# Altium footprint library 8051.PcbLib: 14 footprints
Each footprint in its own frame and in the unit in brackets; x right, y up, seen from the top. Pads: shape width x height; smd on the part's side, far side on the other; paste and mask are expansions set on the pad; w line width, h text height; cw(c..) or ccw(c..) is an arc to the next point about the centre after c.
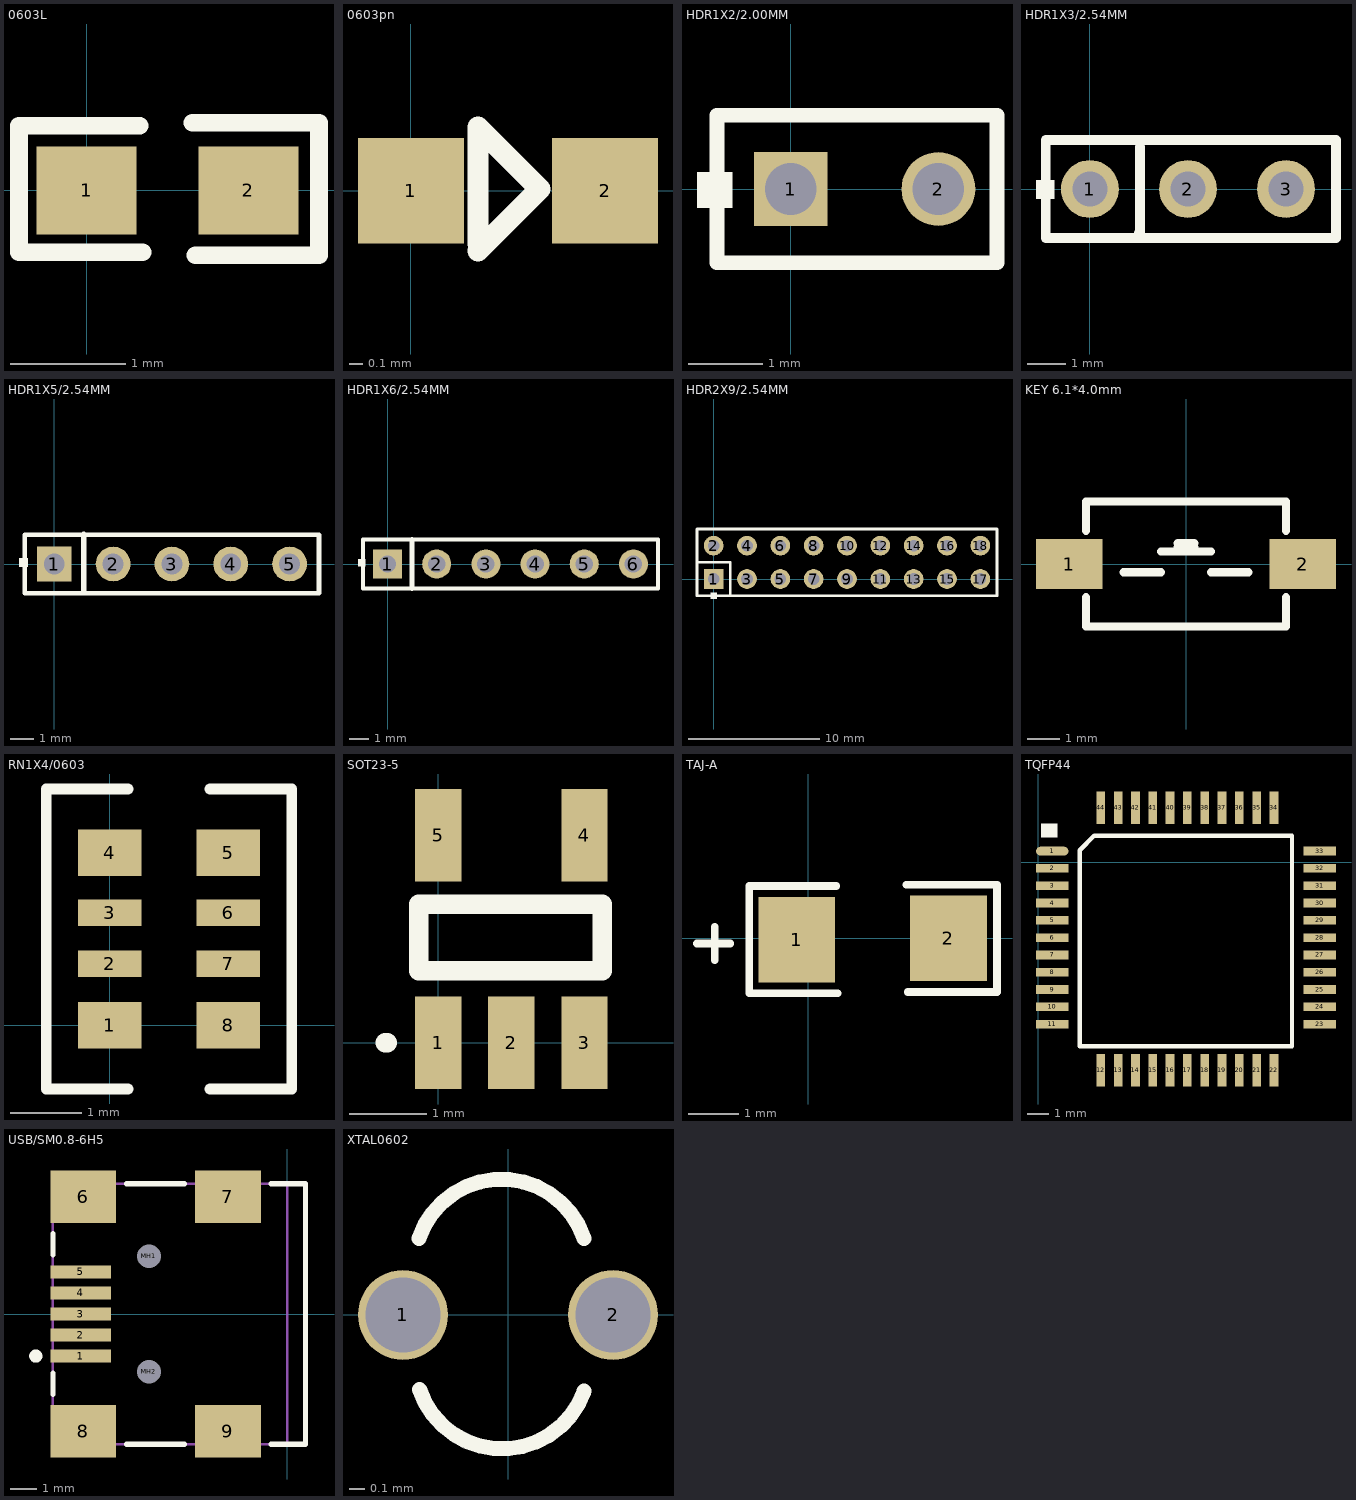
[diagram p0: the footprints below, top view; thin cyan lines are the x and y axes]

## 0603L [mil] "0603 LONG"
height 200
pads (2):
  rect 33.94x30 smd: 1(0,0) 2(55,0)
Top Overlay:
  lines w6: 18,22 -23,22 -23,-21 19,-21 ; 36,23 79,23 79,-22 37,-22

## 0603pn [mil]
height 200
pads (2):
  rect 30x30 smd: 1(0,0) 2(55,0)
Top Overlay:
  lines w6: 19,-17 36.5,0.5 19,18 19,-15 20,-16

## HDR1X2/2.00MM [mm]
pads (2):
  rect 1x1 hole 0.7: 1(0,0)
  round 1 hole 0.7: 2(2,0)
Top Overlay:
  rectangle: -1.27,-0.254 -0.787,0.229
  lines w0.2: -1,-1 2.794,-1 2.794,1 -1,1 -1,-1

## HDR1X3/2.54MM [mm]
pads (3):
  round 1.5 hole 0.9: 1(0,0) 2(2.54,0) 3(5.08,0)
Top Overlay:
  rectangle: -1.397,-0.254 -0.914,0.229
  lines w0.254: 1.27,-1.143 1.295,-1.118 1.295,1.092 ; -1.143,-1.27 6.375,-1.27 6.375,1.27 -1.143,1.27 -1.143,-1.27

## HDR1X5/2.54MM [mm] "Connector; Header; 5 Position"
pads (5):
  rect 1.5x1.5 hole 0.9: 1(0,0)
  round 1.5 hole 0.9: 2(2.54,0) 3(5.08,0) 4(7.62,0) 5(10.16,0)
Top Overlay:
  rectangle: -1.524,-0.127 -1.143,0.254
  lines w0.2: -1.27,-1.27 11.43,-1.27 11.43,1.27 -1.27,1.27 -1.27,-1.27
  lines w0.254: 1.27,-1.143 1.27,1.27

## HDR1X6/2.54MM [mm] "Connector; Header; 6 Position"
pads (6):
  rect 1.5x1.5 hole 0.9: 1(0,0)
  round 1.5 hole 0.9: 2(2.54,0) 3(5.08,0) 4(7.62,0) 5(10.16,0) 6(12.7,0)
Top Overlay:
  rectangle: -1.524,-0.127 -1.143,0.254
  lines w0.2: -1.27,-1.27 -1.27,1.27 13.97,1.27 13.97,-1.27 -1.27,-1.27
  lines w0.254: 1.27,-1.27 1.27,1.27

## HDR2X9/2.54MM [mm] "Connector; Header; 9x2 Position"
height 4.7
pads (18):
  rect 1.5x1.5 hole 0.9: 1(0,0)
  round 1.5 hole 0.9: 2(0,2.54) 3(2.54,0) 4(2.54,2.54) 5(5.08,0) 6(5.08,2.54) 7(7.62,0) 8(7.62,2.54) 9(10.16,0) 10(10.16,2.54) 11(12.7,0) 12(12.7,2.54) 13(15.24,0) 14(15.24,2.54) 15(17.78,0) 16(17.78,2.54) 17(20.32,0) 18(20.32,2.54)
Top Overlay:
  rectangle: -0.254,-1.524 0.254,-1.016
  lines w0.2: -1.27,1.27 1.27,1.27 1.27,-1.27 ; -1.27,-1.27 -1.27,3.81 21.59,3.81 21.59,-1.27 -1.27,-1.27

## KEY 6.1*4.0mm [mil]
height 200
pads (2):
  rect 80x60 smd: 1(-140,0) 2(140,0)
Top Overlay:
  lines w10: -120,-40 -120,-75 120,-75 120,-40 ; -120,40 -120,75 120,75 120,40 ; -75,-10 -30,-10 ; -30,15 30,15 ; -10,20 10,20 ; -10,25 10,25 ; 30,-10 75,-10

## RN1X4/0603 [mil]
height 200
pads (8):
  rect 35x25.59 smd: 1(0,0) 4(0,95) 5(65,95) 8(65,0)
  rect 35x14.57 smd: 2(0,33.86) 3(0,62) 6(65,62) 7(65,33.86)
Top Overlay:
  lines w6: -35,120 -35,130 -10,130 10,130 ; -35,125 -35,-35 10,-35 ; 55,-35 100,-35 100,125 100,130 55,130

## SOT23-5 [mm]
height 5.08
pads (5):
  rect 0.6x1.2 smd: 1(0,0) 2(0.95,0) 3(1.9,0) 4(1.9,2.7) 5(0,2.7)
Top Overlay:
  lines w0.254: -0.686,0 -0.66,0 ; -0.254,0.94 -0.254,1.803 2.134,1.803 2.134,0.94 2.108,0.94 -0.254,0.94

## TAJ-A [mil] "TAJ CAP A TYPE 3216"
height 200
pads (2):
  rect 60x66.93 smd: 1(-9,-1) 2(110,0)
Top Overlay:
  lines w6: -87,-4 -61,-4 ; -73,-17 -73,9 ; 22,41 -46,41 -46,-43 23,-43 ; 77,42 148,42 148,-42 78,-42

## TQFP44 [mm]
height 5.08
pads (44):
  oval 1.5x0.4 smd: 1(0.635,0.508)
  rect 1.5x0.4 smd: 2(0.635,-0.292) 3(0.635,-1.092) 4(0.635,-1.892) 5(0.635,-2.692) 6(0.635,-3.492) 7(0.635,-4.292) 8(0.635,-5.092) 9(0.635,-5.892) 10(0.635,-6.692) 11(0.635,-7.492) 23(13,-7.492) 24(13,-6.692) 25(13,-5.892) 26(13,-5.092) 27(13,-4.292) 28(13,-3.492) 29(13,-2.692) 30(13,-1.892) 31(13,-1.092) 32(13,-0.292) 33(13,0.508)
  rect 0.4x1.5 smd: 12(2.881,-9.611) 13(3.681,-9.611) 14(4.481,-9.611) 15(5.281,-9.611) 16(6.081,-9.611) 17(6.881,-9.611) 18(7.681,-9.611) 19(8.481,-9.611) 20(9.281,-9.611) 21(10.081,-9.611) 22(10.881,-9.611) 34(10.881,2.5) 35(10.081,2.5) 36(9.281,2.5) 37(8.481,2.5) 38(7.681,2.5) 39(6.881,2.5) 40(6.081,2.5) 41(5.281,2.5) 42(4.481,2.5) 43(3.681,2.5) 44(2.881,2.5)
Top Overlay:
  rectangle: 0.127,1.143 0.889,1.778
  lines w0.2: 1.905,-8.509 1.905,0.55 2.57,1.215 11.715,1.215 11.715,-8.509 1.905,-8.509

## USB/SM0.8-6H5 [mm] "Connector; USB2.0, Type B, SM; 5 Position; Right Angle"
height 3.9
pads (11):
  rect 2.3x0.5 smd: 1(-7.85,-1.6) 2(-7.85,-0.8) 3(-7.85,0) 4(-7.85,0.8) 5(-7.85,1.6)
  rect 2.5x2 smd: 6(-7.75,4.45) 7(-2.25,4.45) 8(-7.75,-4.45) 9(-2.25,-4.45)
  round 0.6 hole 0.9 unplated: MH1(-5.25,2.2) MH2(-5.25,-2.2)
Top Overlay:
  circle w0.25: c-9.55,-1.6 r0.125
  lines w0.2: -8.9,-3.05 -8.9,-2.25 ; -8.9,2.25 -8.9,3.05 ; -6.1,-4.95 -3.9,-4.95 ; -6.1,4.95 -3.9,4.95 ; -0.6,-4.95 0.7,-4.95 0.7,4.95 -0.6,4.95
Mechanical 1:
  lines w0.1: 0,-4.95 0,4.95
  text "PCB Edge" at 0.432,-4.036 h0.25
Mechanical 13:
  lines w0.1: -8.9,-4.95 0.7,-4.95 0.7,4.95 -8.9,4.95 -8.9,-4.95
3D body: height 3.9, standoff 0, extent -8.9,-4.95 0.7,4.95

## XTAL0602 [mm]
height 5.08
pads (2):
  round 0.6 hole 0.5: 1(-0.7,0) 2(0.7,0)
Top Overlay:
  lines w0.1: -0.595,0.508 cw(c-0.043,0.324) 0.508,0.508 ; -0.59,-0.496 ccw(c-0.039,-0.312) 0.508,-0.508